# Altium integrated library PCB_Project.IntLib: 16 symbols
Pins are listed as number, name and electrical type; pins without a type are passive.

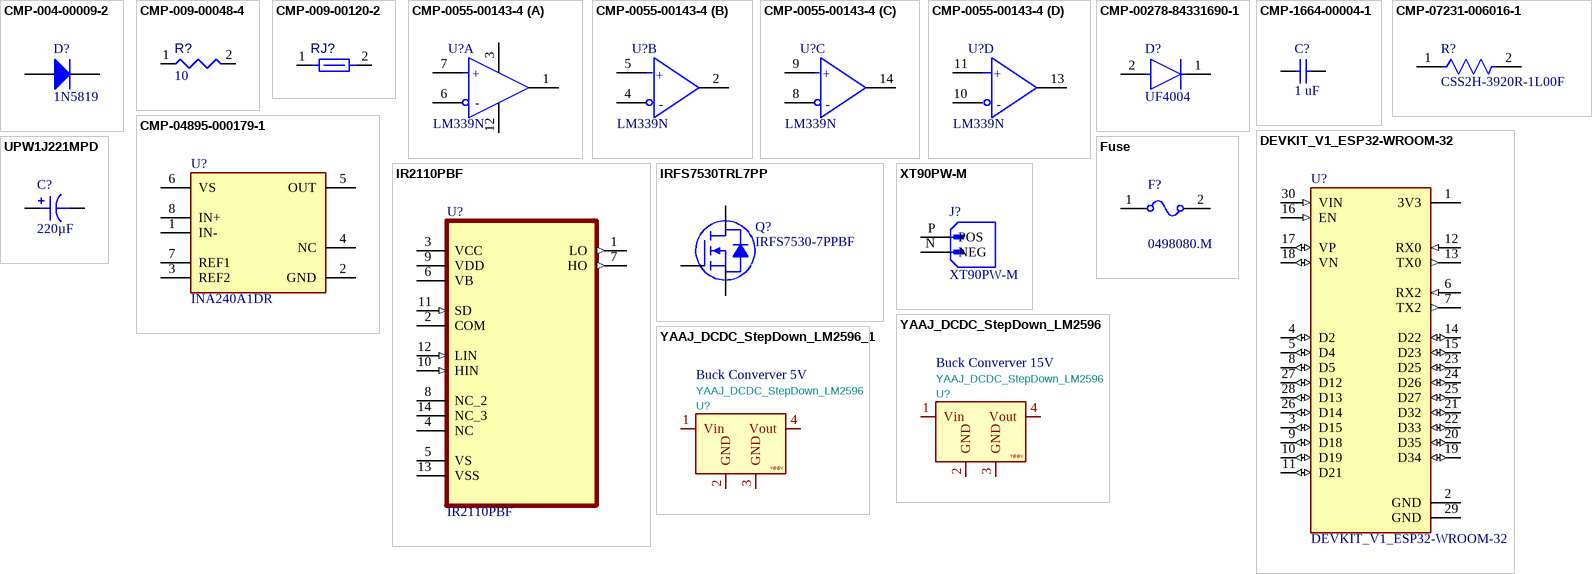
[diagram p0: symbols CMP-004-00009-2 to YAAJ_DCDC_StepDown_LM2596_1]

## CMP-004-00009-2
designator D?, comment 1N5819
Diodo de Desligamento Rápido / Low Drop Power Schottky Rectifier, 40 V, 1 A, 2-Pin DO-41, RoHS; Manufacturer: ON Semiconductor; Manufacturer: onsemi; Max Surge Current: 25A; Forward Current: 1A; Package Version: Rev. U, 02/2005; Peak Reverse Current: 1mA; Max Operating Temperature: 125°C; Case/Package: DO; Package URL: http://www.onsemi.cn/pub_link/Collateral/59-10.PDF; Packaging: Bulk; Manufacturer URL: http://www.onsemi.com/; Min Operating Temperature: -65°C; Package Description: 2-Pin, Axial Lead, Diameter 2.35 mm; Mounting Technology: TH; Datasheet URL: http://www.onsemi.cn/pub_link/Collateral/1N5817-D.PDF; Datasheet Version: Rev. 10, 07/2006; Package Reference: AXIAL_LEAD-2-59-10; Pins: 2; RoHS Compliant: True; Manufacturer Part Number: 1N5819; Component Type: Diodes
footprint ONSC-AXIAL_LEAD-2-59-10_P (AXIAL, 2-Leads, Diameter 2.35mm)
pins: 1 A, 2 K

## CMP-009-00048-4
designator R?, comment value 10  (hidden comment: MFR-25FBF52-10R)
10 Ohms ±1% 0,25W, 1/4W Resistor para furo passante Axial Filme de Metal; Manufacturer: Yageo; Manufacturer: Yageo Group; Manufacturer Part Number: MFR-25FBF52-1K; Voltage Rating: 250V; Power: 250mW; Min Operating Temperature: -55°C; Max Operating Temperature: 155°C; Tolerance: 1%; Package Reference: MFR-25; Composition: CarbonFilm; Mounting Technology: TH; Packaging: Bulk; Case/Package: Axial; Datasheet URL: http://www.yageo.com/documents/recent/Yageo%20LR_MFR_2013.pdf; Package Quantity: 200; Manufacturer URL: http://www.yageo.com/; Package Description: 2-Pin Axial Lead, Dia 2.4 mm, Body Length 6.3 mm; Datasheet Version: Apr-13; RoHS Compliant: True; Component Type: Resistors
footprint RESA60-630X240 (Axial Resistor, 2-Leads, Dia 2.4mm, Body Length 6.3mm)
pins: 1, 2
1 alternate drawing of the same symbol

## CMP-009-00120-2
designator RJ?, comment Net Tie 0.6x1.4mm  (value not drawn)  (net tie, no BOM)
Max Operating Temperature: 155°C; Min Operating Temperature: -55°C; Pins: 2; Component Type: Resistors
footprint SHORT10_8MIL-FP
pins: 1, 2

## CMP-0055-00143-4
designator U?, comment LM339N
IC QUAD DIFF COMPARATOR 14-DIP; Power Dissipation: 1.05kW; Response Time: 1.3us; Max Input Current: 250nA; Max Supply Current: 500uA; Output Current: 20mA; Output Type: TTL; Max Dual Supply Voltage: 15V; Voltage Gain: 106.02dB; Min Supply Voltage: 2V; Max Power Dissipation: 1.05W; Quiescent Current: 2.5mA; Nominal Supply Current: 2mA; Input Offset Voltage (Vos): 5mV; Number of Channels: 4; Output Current per Channel: 6mA; Max Supply Voltage: 30V; Min Dual Supply Voltage: 1V; Dual Supply Voltage: 9V; REACH SVHC: No SVHC; Max Operating Temperature: 70°C; Case/Package: PDIP; Weight: 0.032734oz; Radiation Hardening: No; Min Operating Temperature: 0°C; Number of Pins: 14; Contact Plating: Gold; Package Quantity: 25; Lead Free: Lead Free; Height: 4.57mm; Packaging: Rail/Tube; Input Bias Current: 250nA; Number of Elements: 4; Mount: Through Hole; Width: 6.35mm; Length: 19.3mm
footprint FP-N0014A-MFG
part A pins: 1 1OUT, 3 VCC (power), 6 1IN- (hiz), 7 1IN+ (hiz), 12 GND (power)
part B pins: 2 2OUT, 4 2IN- (hiz), 5 2IN+ (hiz)
part C pins: 8 3IN- (hiz), 9 3IN+ (hiz), 14 OUT3
part D pins: 10 4IN- (hiz), 11 4IN+ (hiz), 13 OUT4
part A text: +; -
part B text: +; -
part C text: +; -
part D text: +; -

## CMP-00278-84331690-1
designator D?, comment UF4004
UF4004 Rectifier Diode, 1 Phase, 1 Element, 1A, 400V V(RRM), Silicon, DO-41; Manufacturer Lifecycle Status: ACTIVE, NOT REC; NexarPartId: 84331690; Max Surge Current: 30A; Power Dissipation: 2.08W; Max Junction Temperature (Tj): 150°C; Element Configuration: Single; Capacitance: 17pF; Recovery Time: 50ns; Forward Voltage: 1V; Polarity: Standard; Peak Reverse Current: 10µA; Max Repetitive Reverse Voltage (Vrrm): 400V; Max Operating Temperature: 150°C; Lead Free: Lead Free; Output Current: 1A; Min Operating Temperature: -65°C; Reverse Voltage: 400V; Lifecycle Status: NRND; Peak Non-Repetitive Surge Current: 30A; Height: 2.72mm; Packaging: Cut Tape; REACH SVHC: No SVHC; Number of Pins: 2; Max Reverse Voltage (DC): 400V; Radiation Hardening: No; Current Rating: 1A; Length: 5.2mm; Average Rectified Current: 1A; Forward Current: 1A; Width: 6.35mm; Reverse Recovery Time: 50ns; Mount: Through Hole; Weight: 245mg; RoHS: Compliant; Voltage Rating (DC): 400V; Schedule B: 8541100080, 8541100080; Diameter: 2.72mm; Max Forward Surge Current (Ifsm): 30A; Contact Plating: Tin
footprint FP-017AH-MFG (Tape & Reel (TR) ±5% Through Hole Single Zener Diode 1.2V @ 200mA 5muA @ 1V 1W 3.9V)
pins: 1 C, 2 A

## CMP-1664-00004-1
designator C?, comment 1 uF
C322C105K5R5TA / 1 µF ±10% 50V Ceramic Capacitor X7R Radial; Case\Package: SOT-23-5; Max Power Dissipation: 250 mW; Output Current: 150 mA; Dropout Voltage: 260 mV; Outputs: 1; Output Voltage: 5 V; Max Input Voltage: 8 V; Min Operating Temperature: -40 degC; Packaging: Tape and Reel; Height: 1.3 mm; Radiation Hardening: No; Pins: 5; ComponentLink1Description: Manufacturer URL; Mount: Surface Mount; RoHSCompliant: true; Max Operating Temperature: 85 degC; PackageReference: CAPR51-254-508X318X736; ComponentLink2URL: http://www.kemet.com/docfinder?Partnumber=C320C104K5R5TA; PackageDescription: 2-Pin Through Hole Device, Body 5.08 x 3.18 mm, Pitch 2.54 mm; ComponentLink1URL: http://www.kemet.com/; Width: 1.8 mm; Package Quantity: 3000; DatasheetVersion: Dec-15; Length: 3 mm; ComponentLink2Description: Datasheet
footprint CAPR51-254-508X318X736 (THD, 2-Leads, Body 5.08x3.18mm)
pins: 1, 2

## CMP-04895-000179-1
designator U?, comment INA240A1DR
IC CURR SENSE 1 CIRCUIT 8SOIC; Slew Rate: 2V/µs; -3db Bandwidth: 400kHz; Input Bias Current: 90uA; Operating Supply Current: 1.8mA; Input Offset Voltage (Vos): 5uV; Number of Circuits: 1; Mount: Surface Mount; Packaging: Cut Tape; Max Operating Temperature: 125°C; Case/Package: SOIC; Min Operating Temperature: -40°C; RoHS Compliant: Yes; Number of Pins: 8
footprint FP-D0008A-IPC_A
footprint FP-D0008A-IPC_B
footprint FP-D0008A-MFG
footprint FP-D0008A-IPC_C
pins: 1 IN- (hiz), 2 GND (power), 3 REF2, 4 NC, 5 OUT, 6 VS (power), 7 REF1, 8 IN+ (hiz)

## CMP-07231-006016-1
designator R?, comment CSS2H-3920R-1L00F
Sensor de Corrente para Feedback / RES 0.001 OHM 1% 8W 3920; Temperature Coefficient: 50ppm/°C; Resistance: 1mR; Length: 0.394inch; Height: 0.02inch; RoHS Compliant: Yes; Packaging: Cut Tape; Case/Package: 3920; Width: 0.205inch; Features: Moisture Resistant; Case Code (Imperial): 3920; Case Code (Metric): 1052; Min Operating Temperature: -55°C; Tolerance: 1%; Power Rating: 8W; Resistor Type: Metal Element; Max Power Dissipation: 8W; REACH SVHC: No SVHC; Max Operating Temperature: 170°C; Number of Terminations: 2
footprint FP-CSS2H-3920R-1L00F-MFG
pins: 1, 2

## DEVKIT_V1_ESP32-WROOM-32
designator U?
WROOM-32 Development Board ESP32 ESP-32S WiFi Bluetooth Dev Module; MF: Do it; MP: DEVKIT V1 ESP32-WROOM-32; SnapEDA_Link: https://www.snapeda.com/parts/DEVKIT%20V1%20ESP32-WROOM-32/Do+it/view-part/?ref=snap; Package: Package; Value: *; Check_prices: https://www.snapeda.com/parts/DEVKIT%20V1%20ESP32-WROOM-32/Do+it/view-part/?ref=eda
footprint MODULE_DEVKIT_V1_ESP32-WROOM-32
pins: 1 3V3 (power), 2 GND (power), 3 D15 (io), 4 D2 (io), 5 D4 (io), 6 RX2 (in), 7 TX2 (out), 8 D5 (io), 9 D18 (io), 10 D19 (io), 11 D21 (io), 12 RX0 (in), 13 TX0 (out), 14 D22 (io), 15 D23 (io), 16 EN (in), 17 VP (io), 18 VN (io), 19 D34 (io), 20 D35 (io), 21 D32 (io), 22 D33 (io), 23 D25 (io), 24 D26 (io), 25 D27 (io), 26 D14 (io), 27 D12 (io), 28 D13 (io), 29 GND (power), 30 VIN (in)

## Fuse
designator F?, comment 0498080.M
80 A 32 V Fuse Automotive Bolt Mount Auto Link; RESISTANCE: 1m; SimulationGenericComponent: True; CURRENT: 80
footprint 0498080M (80 A 32 V Fuse Automotive Bolt Mount Auto Link)
pins: 1, 2

## IR2110PBF
designator U?
High and Low Side Driver, All High Voltage Pins On One Side, Separate Logic and Power Ground, Shut-Down; MF: Infineon; Availability: In Stock; Value: *; Price: None; Check_prices: https://www.snapeda.com/parts/IR2110PBF/Infineon+Technologies/view-part/?ref=eda; Purchase-URL: https://pricing.snapeda.com/search/part/IR2110PBF/?ref=eda; SnapEDA_Link: https://www.snapeda.com/parts/IR2110PBF/Infineon+Technologies/view-part/?ref=snap; MP: IR2110PBF; Package: DIP-14 Infineon
footprint DIP254P762X533-14
pins: 1 LO (out), 2 COM, 3 VCC (power), 4 NC, 5 VS (power), 6 VB (power), 7 HO (out), 8 NC_2, 9 VDD (power), 10 HIN (in), 11 SD (in), 12 LIN (in), 13 VSS (power), 14 NC_3

## IRFS7530TRL7PP
designator Q?, comment IRFS7530-7PPBF
N-Channel 60 V 240A (Tc) 375W (Tc) Surface Mount D2PAK (7-Lead); Part Number: IRFS7530TRL7PP; Manufacturer: Infineon Technologies; Drain to Source Voltage (Vdss): 60 V; Drive Voltage (Max Rds On,  Min Rds On): 6V, 10V; Gate Charge (Qg) (Max) @ Vgs: 354 nC @ 10 V; Input Capacitance (Ciss) (Max) @ Vds: 12960 pF @ 25 V; Rds On (Max) @ Id, Vgs: 1.4mOhm @ 100A, 10V; Vgs (Max): ±20V; Vgs(th) (Max) @ Id: 3.7V @ 250µA; ComponentLink1Description: Datasheet; ComponentLink1URL: https://www.infineon.com/dgdl/irfs7530-7ppbf.pdf?fileId=5546d462533600a40153563a9d1e21d8; ComponentLink2Description: DigiKey Link; ComponentLink2URL: https://www.digikey.com/en/products/detail/infineon-technologies/IRFS7530TRL7PP/4772498; Current - Continuous Drain (Id) @ 25°C: 240A (Tc); FET Type: N-Channel; LastUpdated: 30/03/2026 21:01:58; Lifecycle Status: Active; Minimum Order: 1; Mounting Type: Surface Mount; Operating Temperature: -55°C ~ 175°C (TJ); Package / Case: TO-263-7, D²Pak (6 Leads + Tab); Packaging: TapeAndReel; Part Status: Active; Power Dissipation (Max): 375W (Tc); Price: 1.59; Series: HEXFET®, StrongIRFET™; Supplier 1: DigiKey; Supplier Part Number 1: IRFS7530TRL7PPCT-ND; Supplier Device Package: PG-TO263-7; Technology: MOSFET (Metal Oxide)
footprint INFINEON TO-263-7
pins: 1 G, 2 S, 3 S, 5 S, 6 S, 7 S, 8 D

## UPW1J221MPD
designator C?, comment 220µF
DC Link Capacitor or Bulk Capacitor / CAP ALUM 220UF 20% 63V RADIAL; Part Number: UPW1J221MPD; manufacturer: Nichicon; Impedance: 147 mOhms; Lifetime @ Temp.: 5000 Hrs @ 105°C; Polarization: Polar; Ripple Current @ High Frequency: 885mA @ 100kHz; Ripple Current @ Low Frequency: 575.25mA @ 120Hz; Applications: General Purpose; Capacitance: 220µF; componentlink1description: Datasheet; componentlink1url: http://nichicon-us.com/english/products/pdfs/e-upw.pdf; componentlink2description: DigiKey Link; componentlink2url: http://digikey.com/product-detail/en/nichicon/UPW1J221MPD/493-1942-ND/589683; Device Package: Radial, Can; Height - Seated (Max): 0.787" (20.00mm); lastupdated: 02/09/2020 01:31:30; Lead Spacing: 0.197" (5.00mm); Lifecycle Status: Active; Minimum Order: 1; Mounting Type: Through Hole; Operating Temperature: -55°C ~ 105°C; Package / Case: Radial, Can; packaging: Bulk; partid: 12422; Part Status: Active; price: 0.65; series: UPW; Size / Dimension: 0.394" Dia (10.00mm); Supplier 1: DigiKey; Supplier Part Number 1: 493-1942-ND; Tolerance: ±20%; value: 220µF; Voltage - Rated: 63V
footprint CAP TH ALUM ELEC D10.00mm S5.00mm H20.00mm
pins: 1, 2

## XT90PW-M
designator J?
LiPo Battery 6s / ySocket; DC supply; XT90; male; PIN: 2; on PCBs; THT; Colour: yellow; MF: AMASS; SnapEDA_Link: https://www.snapeda.com/parts/XT90PW-M/AMASS/view-part/?ref=snap; Package: Package; Value: *; MP: XT90PW-M; Check_prices: https://www.snapeda.com/parts/XT90PW-M/AMASS/view-part/?ref=eda
footprint AMASS_XT90PW-M
pins: N NEG, P POS

## YAAJ_DCDC_StepDown_LM2596
designator U?, comment Buck Converver 15V  value YAAJ_DCDC_StepDown_LM2596
DCDC_StepDown_LM2596
footprint YAAJ_DCDC_StepDown_LM2596
pins: 1 Vin (power), 2 GND (power), 3 GND (power), 4 Vout (power)
text: Y@@V

## YAAJ_DCDC_StepDown_LM2596_1
designator U?, comment Buck Converver 5V  value YAAJ_DCDC_StepDown_LM2596
DCDC_StepDown_LM2596
footprint YAAJ_DCDC_StepDown_LM2596
pins: 1 Vin (power), 2 GND (power), 3 GND (power), 4 Vout (power)
text: Y@@V